# EAGLE library part USB-C (library SD-SolderSync)
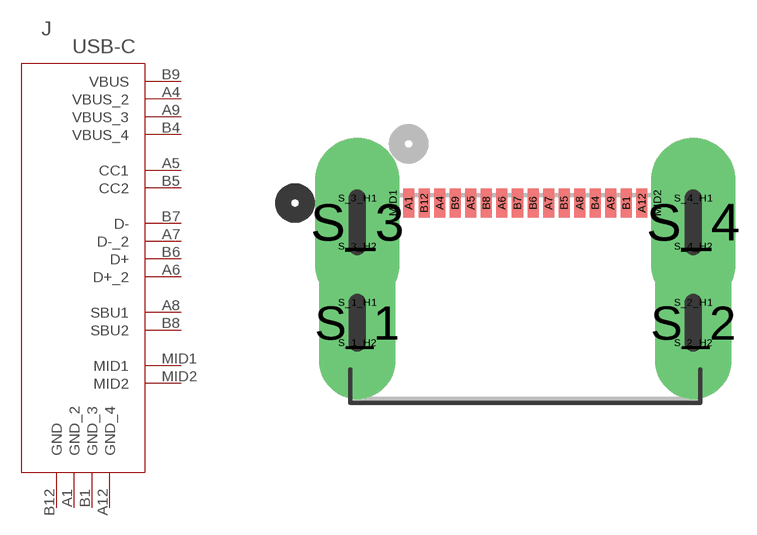
[diagram p5: symbol with the pads of USB-C; footprint USB-C]

Designator prefix J

## USB-CCX90M-16P_HIR (COPYRIGHT: Copyright (C) 2024 Ultra Librarian. All rights reserved.; MANUFACTURER_PART_NUMBER: CX90M-16P; MFR_NAME: Hirose)  [USB-C]
A1  GND_2  pas
A4  VBUS_2  pas
A5  CC1
A6  D+_2  pas
A7  D-_2
A8  SBU1  nc
A9  VBUS_3  pas
A12  GND_4  pas
B1  GND_3  pas
B4  VBUS_4  pas
B5  CC2
B6  D+  pas
B7  D-
B8  SBU2  nc
B9  VBUS  pas
B12  GND  pas
MID1  MID1
MID2  MID2

## Footprint USB-C (pad centres in mm)
smd 0.356 x 0.94: A1 -3.75,3.027; A4 -2.75,3.027; A5 -1.75,3.027; A6 -0.75,3.027; A7 0.75,3.027; A8 1.75,3.027; A9 2.75,3.027; A12 3.75,3.027; B1 3.25,3.027; B4 2.25,3.027; B5 1.25,3.027; B6 0.25,3.027; B7 -0.25,3.027; B8 -1.25,3.027; B9 -2.25,3.027; B12 -3.25,3.027; MID1 -4.25,3.027; MID2 4.25,3.027
drill 0.025 pad 2.464 long: S_1 -5.4,-0.823; S_2 5.4,-0.823
drill 0.559 pad 0.559: S_1_H1 -5.4,-0.176; S_1_H2 -5.4,-1.471; S_2_H1 5.4,-0.176; S_2_H2 5.4,-1.471; S_3_H1 -5.4,3.181; S_3_H2 -5.4,1.632; S_4_H1 5.4,3.181; S_4_H2 5.4,1.632
drill 0.025 pad 2.718 long: S_3 -5.4,2.407; S_4 5.4,2.407